# EAGLE library part PIC32AK1216GC41064-E/PT (library pic32A)
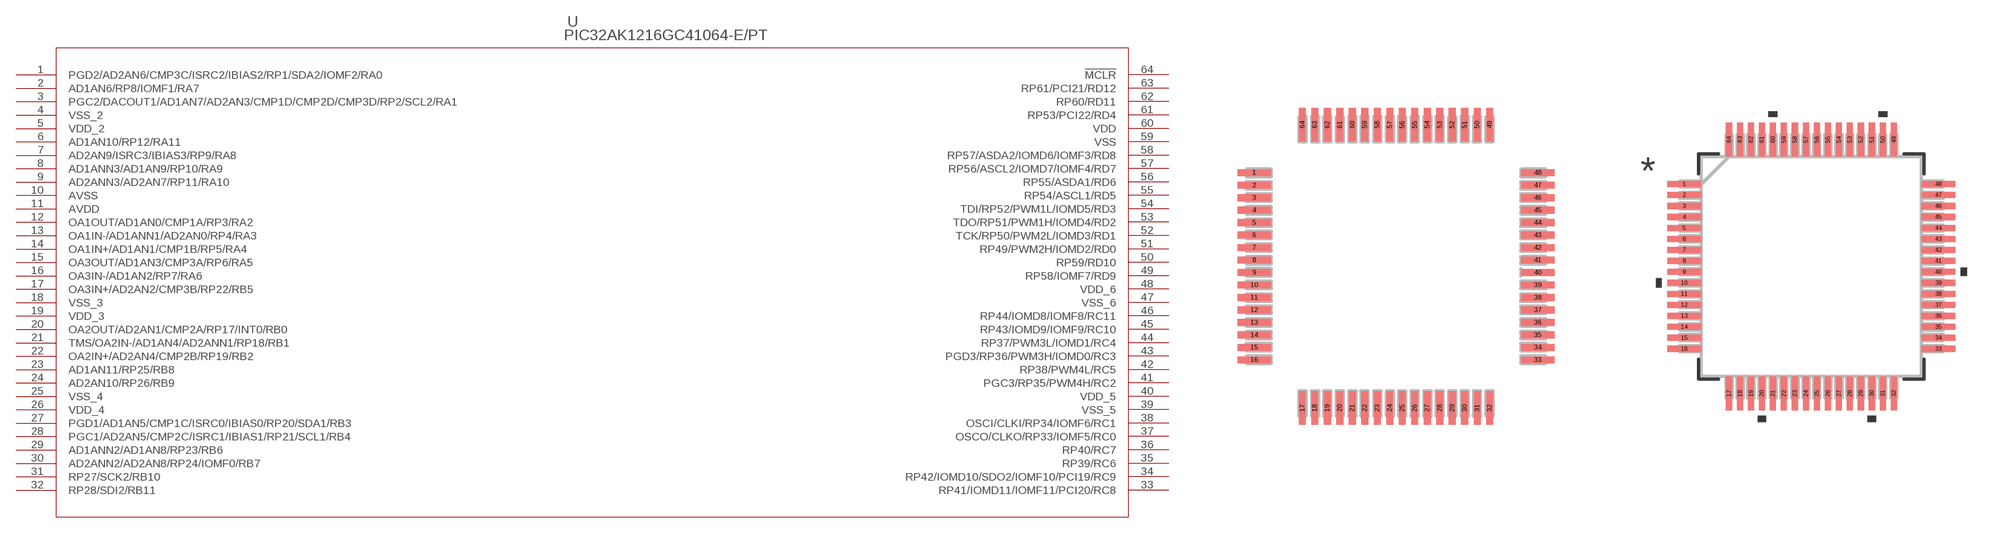
[diagram p0: symbol with the pads of TQFP64_PT_MCH; footprints TQFP64_PT_MCH, TQFP64_PT_MCH-M]

Designator prefix U

## PIC32AK1216GC41064-E/PT (COPYRIGHT: Copyright (C) 2025 Ultra Librarian. All rights reserved.; MANUFACTURER_NAME: Microchip; MANUFACTURER_PART_NUMBER: PIC32AK1216GC41064-E/PT)  [TQFP64_PT_MCH]
1  PGD2/AD2AN6/CMP3C/ISRC2/IBIAS2/RP1/SDA2/IOMF2/RA0
2  AD1AN6/RP8/IOMF1/RA7
3  PGC2/DACOUT1/AD1AN7/AD2AN3/CMP1D/CMP2D/CMP3D/RP2/SCL2/RA1
4  VSS_2  pas
5  VDD_2  pwr
6  AD1AN10/RP12/RA11
7  AD2AN9/ISRC3/IBIAS3/RP9/RA8
8  AD1ANN3/AD1AN9/RP10/RA9
9  AD2ANN3/AD2AN7/RP11/RA10
10  AVSS  pas
11  AVDD  pwr
12  OA1OUT/AD1AN0/CMP1A/RP3/RA2
13  OA1IN-/AD1ANN1/AD2AN0/RP4/RA3
14  OA1IN+/AD1AN1/CMP1B/RP5/RA4
15  OA3OUT/AD1AN3/CMP3A/RP6/RA5
16  OA3IN-/AD1AN2/RP7/RA6
17  OA3IN+/AD2AN2/CMP3B/RP22/RB5
18  VSS_3  pas
19  VDD_3  pwr
20  OA2OUT/AD2AN1/CMP2A/RP17/INT0/RB0
21  TMS/OA2IN-/AD1AN4/AD2ANN1/RP18/RB1
22  OA2IN+/AD2AN4/CMP2B/RP19/RB2
23  AD1AN11/RP25/RB8
24  AD2AN10/RP26/RB9
25  VSS_4  pas
26  VDD_4  pwr
27  PGD1/AD1AN5/CMP1C/ISRC0/IBIAS0/RP20/SDA1/RB3
28  PGC1/AD2AN5/CMP2C/ISRC1/IBIAS1/RP21/SCL1/RB4
29  AD1ANN2/AD1AN8/RP23/RB6
30  AD2ANN2/AD2AN8/RP24/IOMF0/RB7
31  RP27/SCK2/RB10
32  RP28/SDI2/RB11
33  RP41/IOMD11/IOMF11/PCI20/RC8
34  RP42/IOMD10/SDO2/IOMF10/PCI19/RC9
35  RP39/RC6
36  RP40/RC7
37  OSCO/CLKO/RP33/IOMF5/RC0
38  OSCI/CLKI/RP34/IOMF6/RC1
39  VSS_5  pas
40  VDD_5  pwr
41  PGC3/RP35/PWM4H/RC2
42  RP38/PWM4L/RC5
43  PGD3/RP36/PWM3H/IOMD0/RC3
44  RP37/PWM3L/IOMD1/RC4
45  RP43/IOMD9/IOMF9/RC10
46  RP44/IOMD8/IOMF8/RC11
47  VSS_6  pas
48  VDD_6  pwr
49  RP58/IOMF7/RD9
50  RP59/RD10
51  RP49/PWM2H/IOMD2/RD0
52  TCK/RP50/PWM2L/IOMD3/RD1
53  TDO/RP51/PWM1H/IOMD4/RD2
54  TDI/RP52/PWM1L/IOMD5/RD3
55  RP54/ASCL1/RD5
56  RP55/ASDA1/RD6
57  RP56/ASCL2/IOMD7/IOMF4/RD7
58  RP57/ASDA2/IOMD6/IOMF3/RD8
59  VSS  pas
60  VDD  pwr
61  RP53/PCI22/RD4
62  RP60/RD11
63  RP61/PCI21/RD12
64  !MCLR  in

## PIC32AK1216GC41064-E/PTTQFP64_PT_MCH-M (COPYRIGHT: Copyright (C) 2025 Ultra Librarian. All rights reserved.; MANUFACTURER_NAME: Microchip; MANUFACTURER_PART_NUMBER: PIC32AK1216GC41064-E/PT)  [TQFP64_PT_MCH-M]
Pads as for TQFP64_PT_MCH

## PIC32AK1216GC41064-E/PTTQFP64_PT_MCH-L (COPYRIGHT: Copyright (C) 2025 Ultra Librarian. All rights reserved.; MANUFACTURER_NAME: Microchip; MANUFACTURER_PART_NUMBER: PIC32AK1216GC41064-E/PT)  [TQFP64_PT_MCH-L]
Pads as for TQFP64_PT_MCH

## Footprint TQFP64_PT_MCH (pad centres in mm)
smd 1.346 x 0.279: 1 -5.677,3.75; 2 -5.677,3.25; 3 -5.677,2.75; 4 -5.677,2.25; 5 -5.677,1.75; 6 -5.677,1.25; 7 -5.677,0.75; 8 -5.677,0.25; 9 -5.677,-0.25; 10 -5.677,-0.75; 11 -5.677,-1.25; 12 -5.677,-1.75; 13 -5.677,-2.25; 14 -5.677,-2.75; 15 -5.677,-3.25; 16 -5.677,-3.75; 33 5.677,-3.75; 34 5.677,-3.25; 35 5.677,-2.75; 36 5.677,-2.25; 37 5.677,-1.75; 38 5.677,-1.25; 39 5.677,-0.75; 40 5.677,-0.25; 41 5.677,0.25; 42 5.677,0.75; 43 5.677,1.25; 44 5.677,1.75; 45 5.677,2.25; 46 5.677,2.75; 47 5.677,3.25; 48 5.677,3.75
smd 0.279 x 1.346: 17 -3.75,-5.677; 18 -3.25,-5.677; 19 -2.75,-5.677; 20 -2.25,-5.677; 21 -1.75,-5.677; 22 -1.25,-5.677; 23 -0.75,-5.677; 24 -0.25,-5.677; 25 0.25,-5.677; 26 0.75,-5.677; 27 1.25,-5.677; 28 1.75,-5.677; 29 2.25,-5.677; 30 2.75,-5.677; 31 3.25,-5.677; 32 3.75,-5.677; 49 3.75,5.677; 50 3.25,5.677; 51 2.75,5.677; 52 2.25,5.677; 53 1.75,5.677; 54 1.25,5.677; 55 0.75,5.677; 56 0.25,5.677; 57 -0.25,5.677; 58 -0.75,5.677; 59 -1.25,5.677; 60 -1.75,5.677; 61 -2.25,5.677; 62 -2.75,5.677; 63 -3.25,5.677; 64 -3.75,5.677

## Footprint TQFP64_PT_MCH-M (pad centres in mm)
smd 1.549 x 0.279: 1 -5.779,3.75; 2 -5.779,3.25; 3 -5.779,2.75; 4 -5.779,2.25; 5 -5.779,1.75; 6 -5.779,1.25; 7 -5.779,0.75; 8 -5.779,0.25; 9 -5.779,-0.25; 10 -5.779,-0.75; 11 -5.779,-1.25; 12 -5.779,-1.75; 13 -5.779,-2.25; 14 -5.779,-2.75; 15 -5.779,-3.25; 16 -5.779,-3.75; 33 5.779,-3.75; 34 5.779,-3.25; 35 5.779,-2.75; 36 5.779,-2.25; 37 5.779,-1.75; 38 5.779,-1.25; 39 5.779,-0.75; 40 5.779,-0.25; 41 5.779,0.25; 42 5.779,0.75; 43 5.779,1.25; 44 5.779,1.75; 45 5.779,2.25; 46 5.779,2.75; 47 5.779,3.25; 48 5.779,3.75
smd 0.279 x 1.549: 17 -3.75,-5.779; 18 -3.25,-5.779; 19 -2.75,-5.779; 20 -2.25,-5.779; 21 -1.75,-5.779; 22 -1.25,-5.779; 23 -0.75,-5.779; 24 -0.25,-5.779; 25 0.25,-5.779; 26 0.75,-5.779; 27 1.25,-5.779; 28 1.75,-5.779; 29 2.25,-5.779; 30 2.75,-5.779; 31 3.25,-5.779; 32 3.75,-5.779; 49 3.75,5.779; 50 3.25,5.779; 51 2.75,5.779; 52 2.25,5.779; 53 1.75,5.779; 54 1.25,5.779; 55 0.75,5.779; 56 0.25,5.779; 57 -0.25,5.779; 58 -0.75,5.779; 59 -1.25,5.779; 60 -1.75,5.779; 61 -2.25,5.779; 62 -2.75,5.779; 63 -3.25,5.779; 64 -3.75,5.779

## Footprint TQFP64_PT_MCH-L (pad centres in mm)
smd 1.143 x 0.229: 1 -5.575,3.75; 2 -5.575,3.25; 3 -5.575,2.75; 4 -5.575,2.25; 5 -5.575,1.75; 6 -5.575,1.25; 7 -5.575,0.75; 8 -5.575,0.25; 9 -5.575,-0.25; 10 -5.575,-0.75; 11 -5.575,-1.25; 12 -5.575,-1.75; 13 -5.575,-2.25; 14 -5.575,-2.75; 15 -5.575,-3.25; 16 -5.575,-3.75; 33 5.575,-3.75; 34 5.575,-3.25; 35 5.575,-2.75; 36 5.575,-2.25; 37 5.575,-1.75; 38 5.575,-1.25; 39 5.575,-0.75; 40 5.575,-0.25; 41 5.575,0.25; 42 5.575,0.75; 43 5.575,1.25; 44 5.575,1.75; 45 5.575,2.25; 46 5.575,2.75; 47 5.575,3.25; 48 5.575,3.75
smd 0.229 x 1.143: 17 -3.75,-5.575; 18 -3.25,-5.575; 19 -2.75,-5.575; 20 -2.25,-5.575; 21 -1.75,-5.575; 22 -1.25,-5.575; 23 -0.75,-5.575; 24 -0.25,-5.575; 25 0.25,-5.575; 26 0.75,-5.575; 27 1.25,-5.575; 28 1.75,-5.575; 29 2.25,-5.575; 30 2.75,-5.575; 31 3.25,-5.575; 32 3.75,-5.575; 49 3.75,5.575; 50 3.25,5.575; 51 2.75,5.575; 52 2.25,5.575; 53 1.75,5.575; 54 1.25,5.575; 55 0.75,5.575; 56 0.25,5.575; 57 -0.25,5.575; 58 -0.75,5.575; 59 -1.25,5.575; 60 -1.75,5.575; 61 -2.25,5.575; 62 -2.75,5.575; 63 -3.25,5.575; 64 -3.75,5.575